# Altium footprint library connector.PcbLib: 63 footprints (part 1 of 4)
Each footprint in its own frame and in the unit in brackets; x right, y up, seen from the top. Pads: shape width x height; smd on the part's side, far side on the other; paste and mask are expansions set on the pad; w line width, h text height; cw(c..) or ccw(c..) is an arc to the next point about the centre after c.
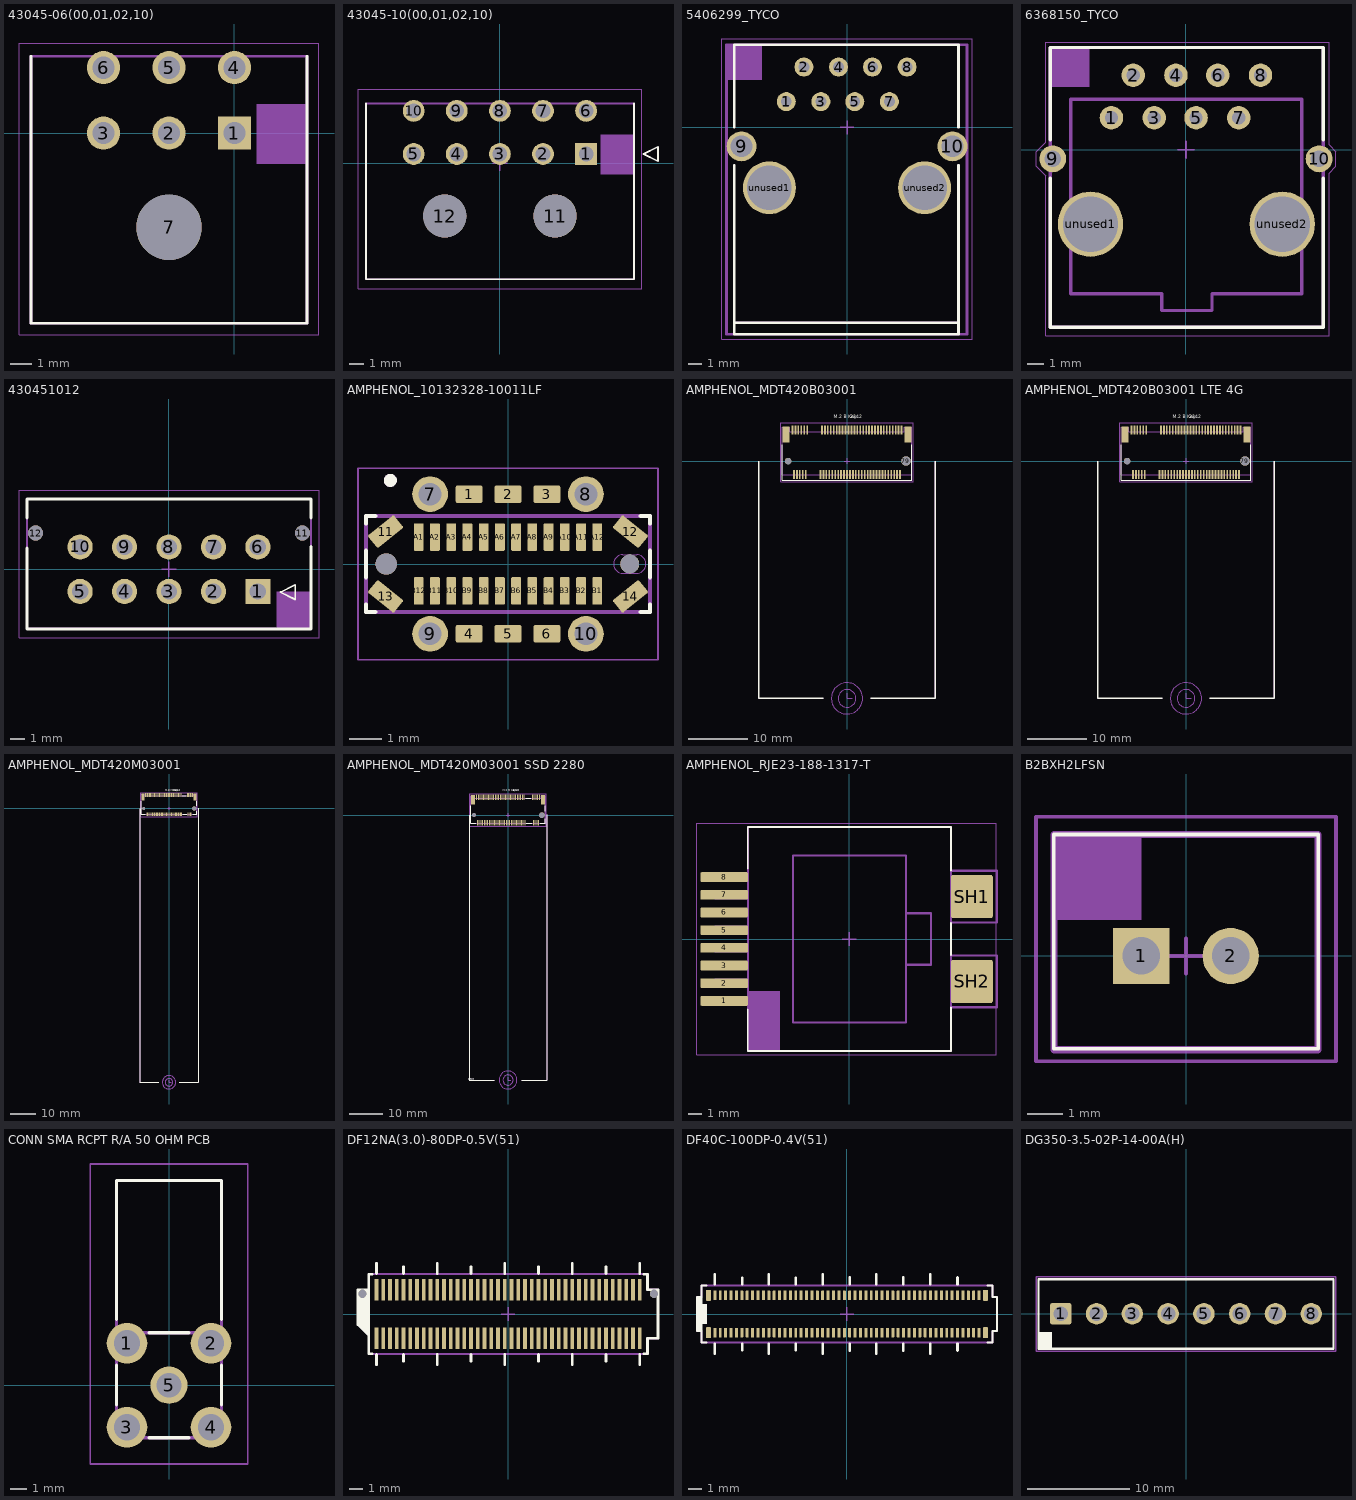
[diagram p0: the footprints below, top view; thin cyan lines are the x and y axes]

## 43045-06(00,01,02,10) [mm]
pads (7):
  rect 1.52x1.52 hole 1.02: 1(0,0)
  round 1.52 hole 1.02: 2(-3,0) 3(-6,0) 4(0,3) 5(-3,3) 6(-6,3)
  round 3 hole 3 unplated: 7(-3,-4.32)
Top Overlay:
  lines w0.127: -9.325,3.52 -9.325,-8.72 3.325,-8.72 3.325,3.52
Top Assembly:
  rectangle: 1,-1.423 3.321,1.34
  lines w0.127: -9.325,-8.72 3.325,-8.72 3.325,3.52 -9.325,3.52 -9.325,-8.72
Top Courtyard:
  lines w0.05: -9.875,-9.25 3.875,-9.25 3.875,4.125 -9.875,4.125 -9.875,-9.25
3D body "43045-0602.stp": height 8.69, standoff -3.26, extent -9.585,-8.905 3.565,3.335

## 43045-10(00,01,02,10) [mm]
pads (12):
  rect 1.52x1.52 hole 1.02: 1(6,0.66)
  round 1.52 hole 1.02: 2(3,0.66) 3(0,0.66) 4(-3,0.66) 5(-6,0.66) 6(6,3.66) 7(3,3.66) 8(0,3.66) 9(-3,3.66) 10(-6,3.66)
  round 3 hole 3 unplated: 11(3.84,-3.66) 12(-3.84,-3.66)
Top Overlay:
  lines w0.127: -9.325,4.18 -9.325,-8.06 9.325,-8.06 9.325,4.18 ; 10,0.66 11,0.16 11,1.16 10,0.66
Top Designator:
  text ".Designator" at -8.874,5.675 h0.6
Top Assembly:
  rectangle: 7,-0.763 9.321,2
  lines w0.127: -9.325,-8.06 9.325,-8.06 9.325,4.18 -9.325,4.18 -9.325,-8.06
Top Courtyard:
  lines w0.05: -9.875,-8.715 9.875,-8.715 9.875,5.16 -9.875,5.16 -9.875,-8.715
  lines w0.1: -0.5,0 0.5,0 ; 0,-0.5 0,0.5
3D body "43045-1000.stp": height 8.67, standoff -3.28, extent -9.6,-8.27 9.55,3.97

## 5406299_TYCO [mm]
pads (12):
  round 1.4 hole 0.8 paste-2539.97: 1(-4.475,1.9) 2(-3.175,4.45) 3(-1.925,1.9) 4(-0.625,4.45) 5(0.575,1.9) 6(1.875,4.45) 7(3.125,1.9) 8(4.425,4.45)
  round 2.2 hole 1.6 paste-2539.97: 9(-7.775,-1.4) 10(7.775,-1.4)
  round 3.9 hole 3.3 paste-2539.97: unused1(-5.725,-4.45) unused2(5.725,-4.45)
Top Overlay:
  lines w0.2: -8.31,-14.4 8.2,-14.4 ; -8.31,-2.8 -8.31,-15.25 8.225,-15.25 8.225,-2.8 ; -8.31,0 -8.31,6.1 8.225,6.1 8.225,0
Top Designator:
  text ".Designator" at -2.999,7.3 h0.6
Top Assembly:
  rectangle: -8.886,3.5 -6.25,6.1
  lines w0.2: -8.31,-14.4 8.225,-14.4 ; -8.886,-15.25 -8.886,6.1 8.847,6.1 8.847,-15.25 -8.886,-15.25
Top Courtyard:
  lines w0.05: -9.25,-2.115 -9.25,-1 -9.25,-0.675 -9.25,6.515 9.245,6.515 9.245,-0.687 9.245,-2.1 9.247,-2.102 9.247,-15.6 -9.246,-15.6 -9.246,-2.119 -9.25,-2.115
  lines w0.1: -0.5,0 0.5,0 ; 0,-0.5 0,0.5
3D body "1-5406299-1.stp": height 14.75, standoff -3.69, extent -8.917,-15.179 8.817,6.157

## 6368150_TYCO [mm]
pads (12):
  round 1.4 hole 0.8 paste-2539.97: 1(-4.45,1.9) 2(-3.15,4.45) 3(-1.9,1.9) 4(-0.6,4.45) 5(0.6,1.9) 6(1.9,4.45) 7(3.15,1.9) 8(4.45,4.45)
  round 1.6 hole 1 paste-2539.97: 9(-7.95,-0.55) 10(7.95,-0.55)
  round 3.9 hole 3.3 paste-2539.97: unused1(-5.7,-4.45) unused2(5.75,-4.45)
Top Overlay:
  lines w0.2: -8.1,-1.7 -8.1,-10.6 8.2,-10.6 8.2,-1.7 ; -8.1,0.6 -8.1,6.1 8.2,6.1 8.2,0.6
Top Designator:
  text ".Designator" at -2.999,7.05 h0.6
Top Assembly:
  rectangle: -8.1,3.75 -5.75,6.1
  lines w0.2: -8.1,-10.6 -8.1,6.1 8.2,6.1 8.2,-10.6 -8.1,-10.6 ; -6.888,-8.6 -3.45,-8.6 -1.45,-8.6 -1.45,-9.6 -0.95,-9.6 0.05,-9.6 1.05,-9.6 1.55,-9.6 1.55,-8.6 3.55,-8.6 6.904,-8.6 6.904,-0.446 6.904,3.018 -6.888,3.018 -6.888,-8.6
Top Courtyard:
  lines w0.05: -8.955,-0.991 -8.383,-1.563 -8.383,-11.1 8.55,-11.1 8.55,-1.407 8.958,-1 8.958,-0.118 8.55,0.29 8.55,6.402 -8.383,6.402 -8.383,0.449 -8.955,-0.124 -8.955,-0.991
  lines w0.1: -0.5,0 0.5,0 ; 0,-0.5 0,0.5
3D body "6368150-1.stp": height 17, standoff -3.74, extent -8.065,-10.809 8.055,5.821

## 430451012 [mm]
pads (12):
  rect 1.7x1.7 hole 1.1: 1(6,-1.5)
  round 1.7 hole 1.1: 2(3,-1.5) 3(0,-1.5) 4(-3,-1.5) 5(-6,-1.5) 6(6,1.5) 7(3,1.5) 8(0,1.5) 9(-3,1.5) 10(-6,1.5)
  round 1.02 hole 1.02: 11(9,2.44) 12(-9,2.44)
Top Overlay:
  lines w0.127: 7.525,-1.55 8.525,-2.05 8.525,-1.05 7.525,-1.55
  lines w0.2: -9.575,1.42 -9.575,-4.025 9.575,-4.025 9.575,1.525 ; -9.575,3.45 -9.575,4.725 9.575,4.725 9.575,3.45
Route Tool Path:
  text "%R" at 5.501,-1.872 h1.27
Top Designator:
  text ".Designator" at -2.974,5.2 h0.6
Top Assembly:
  rectangle: 7.25,-4 9.575,-1.5
  lines w0.127: -9.575,-4 -9.575,4.75 9.575,4.75 9.575,-4 -9.575,-4
Top Courtyard:
  lines w0.05: -10.125,-4.625 -10.125,5.325 10.125,5.325 10.125,-4.625 -10.125,-4.625
  lines w0.1: -0.5,0 0.5,0 ; 0,-0.5 0,0.5
3D body "43045-1012.stp": height 9.95, standoff -3.14, extent -9.575,-3.99 9.575,4.78

## AMPHENOL_10132328-10011LF [mm]
height 8.8
pads (40):
  rrect20% 0.82x0.55 smd: 1(-1.2,2.15) 2(0,2.15) 3(1.2,2.15) 4(-1.2,-2.15) 5(0,-2.15) 6(1.2,-2.15)
  round 1.1 hole 0.7: 7(-2.4,2.15) 8(2.4,2.15) 9(-2.4,-2.15) 10(2.4,-2.15)
  rrect20% 1.03x0.5 smd rot 39: 11(-3.77,1) 14(3.77,-1)
  rrect20% 1.03x0.5 smd rot 141: 12(3.77,1) 13(-3.77,-1)
  rrect20% 0.3x0.85 smd: A1(-2.75,0.83) A2(-2.25,0.83) A3(-1.75,0.83) A4(-1.25,0.83) A5(-0.75,0.83) A6(-0.25,0.83) A7(0.25,0.83) A8(0.75,0.83) A9(1.25,0.83) A10(1.75,0.83) A11(2.25,0.83) A12(2.75,0.83) B1(2.75,-0.83) B2(2.25,-0.83) B3(1.75,-0.83) B4(1.25,-0.83) B5(0.75,-0.83) B6(0.25,-0.83) B7(-0.25,-0.83) B8(-0.75,-0.83) B9(-1.25,-0.83) B10(-1.75,-0.83) B11(-2.25,-0.83) B12(-2.75,-0.83)
  round 0.66 hole 0.66 unplated: ""(-3.75,0)
  round 0.58 hole 0.58 unplated: ""(3.75,0)
Top Overlay:
  circle w0.2: c-3.625,2.575 r0.1
  lines w0.127: -4.37,-1.25 -4.37,-1.48 -4.09,-1.48 ; -4.37,-0.41 -4.37,0.41 ; -4.37,1.25 -4.37,1.48 -4.09,1.48 ; 4.09,-1.48 4.37,-1.48 4.37,-1.25 ; 4.09,1.48 4.37,1.48 4.37,1.25 ; 4.37,-0.41 4.37,0.41
Board:
  lines w0: 3.54,-0.29 cw(c3.54,0) 3.54,0.29 3.96,0.29 cw(c3.96,0) 3.96,-0.29 3.54,-0.29
Top Assembly:
  circle w0.2: c-3.625,2.575 r0.1
  lines w0.127: -4.37,-1.48 -4.37,1.48 4.37,1.48 4.37,-1.48 -4.37,-1.48
Top Courtyard:
  lines w0.05: -4.62,-2.95 -4.62,2.95 4.62,2.95 4.62,-2.95 -4.62,-2.95
3D body "step_temp.STEP": height 8.9, standoff -1.2, extent -4.37,-2.25 4.37,2.25

## AMPHENOL_MDT420B03001 [mm] "PCIe M.2 Connectors, Storage and Server Connector, P=0.5mm, H=4.2mm, Key B,Gold Plating"
height 4.2
pads (71):
  rrect20% 0.3x1.55 smd: 1(-9.25,5.275) 2(-9,-2.275) 3(-8.75,5.275) 4(-8.5,-2.275) 5(-8.25,5.275) 6(-8,-2.275) 7(-7.75,5.275) 8(-7.5,-2.275) 9(-7.25,5.275) 10(-7,-2.275) 11(-6.75,5.275) 20(-4.5,-2.275) 21(-4.25,5.275) 22(-4,-2.275) 23(-3.75,5.275) 24(-3.5,-2.275) 25(-3.25,5.275) 26(-3,-2.275) 27(-2.75,5.275) 28(-2.5,-2.275) 29(-2.25,5.275) 30(-2,-2.275) 31(-1.75,5.275) 32(-1.5,-2.275) 33(-1.25,5.275) 34(-1,-2.275) 35(-0.75,5.275) 36(-0.5,-2.275) 37(-0.25,5.275) 38(0,-2.275) 39(0.25,5.275) 40(0.5,-2.275) 41(0.75,5.275) 42(1,-2.275) 43(1.25,5.275) 44(1.5,-2.275) 45(1.75,5.275) 46(2,-2.275) 47(2.25,5.275) 48(2.5,-2.275) 49(2.75,5.275) 50(3,-2.275) 51(3.25,5.275) 52(3.5,-2.275) 53(3.75,5.275) 54(4,-2.275) 55(4.25,5.275) 56(4.5,-2.275) 57(4.75,5.275) 58(5,-2.275) 59(5.25,5.275) 60(5.5,-2.275) 61(5.75,5.275) 62(6,-2.275) 63(6.25,5.275) 64(6.5,-2.275) 65(6.75,5.275) 66(7,-2.275) 67(7.25,5.275) 68(7.5,-2.275) 69(7.75,5.275) 70(8,-2.275) 71(8.25,5.275) 72(8.5,-2.275) 73(8.75,5.275) 74(9,-2.275) 75(9.25,5.275)
  rrect20% 1.2x2.75 smd: 76(-10.35,4.5) 77(10.35,4.5)
  round 1.1 hole 1.1 unplated: 78(-10,0)
  round 1.6 hole 1.6 unplated: 79(10,0)
Top Overlay:
  lines w0.127: -11,2.8 -11,-3.3 11,-3.3 11,2.8
  lines w0.254: -15,0 -15,-40.25 -4,-40.25 ; 4,-40.25 15,-40.25 15,-0.075
  text "2242" at 0.575,6.975 h1
  text "M.2 B Key" at -2.25,6.968 h1
Top Designator:
  text ".Designator" at -10.274,6.975 h0.6
Top Assembly:
  circle w0.2: c0,-40.25 r1.5
  circle w0.2: c0,-40.25 r2.65
  lines w0.127: -11,-2.35 -11,5.7 -9.75,5.7 -9.75,4.95 9.75,4.95 9.75,5.7 11,5.7 11,-2.35 -11,-2.35
  lines w0.15: -15,0 -15,-40.25 -4,-40.25 ; 4,-40.25 15,-40.25 15,-0.075
  lines w0.2: -15,0 -15,-40.25 -4,-40.25 ; 0,-39.37 0,-40.25 0.88,-40.25 ; 4,-40.25 15,-40.25 15,-0.075
Top Courtyard:
  lines w0.05: -11.25,-3.5 -11.25,6.5 11.25,6.5 11.25,-3.5 -11.25,-3.5
  lines w0.1: -0.5,0 0.5,0 ; 0,-0.5 0,0.5
3D body "step_temp.STEP": height 4.2, standoff -0.6, extent -11,-2.949 11,5.601

## AMPHENOL_MDT420B03001 LTE 4G [mm] "PCIe M.2 Connectors, Storage and Server Connector, P=0.5mm, H=4.2mm, Key B,Gold Plating"
height 4.2
pads (71):
  rrect20% 0.3x1.55 smd: 1(-9.25,5.275) 2(-9,-2.275) 3(-8.75,5.275) 4(-8.5,-2.275) 5(-8.25,5.275) 6(-8,-2.275) 7(-7.75,5.275) 8(-7.5,-2.275) 9(-7.25,5.275) 10(-7,-2.275) 11(-6.75,5.275) 20(-4.5,-2.275) 21(-4.25,5.275) 22(-4,-2.275) 23(-3.75,5.275) 24(-3.5,-2.275) 25(-3.25,5.275) 26(-3,-2.275) 27(-2.75,5.275) 28(-2.5,-2.275) 29(-2.25,5.275) 30(-2,-2.275) 31(-1.75,5.275) 32(-1.5,-2.275) 33(-1.25,5.275) 34(-1,-2.275) 35(-0.75,5.275) 36(-0.5,-2.275) 37(-0.25,5.275) 38(0,-2.275) 39(0.25,5.275) 40(0.5,-2.275) 41(0.75,5.275) 42(1,-2.275) 43(1.25,5.275) 44(1.5,-2.275) 45(1.75,5.275) 46(2,-2.275) 47(2.25,5.275) 48(2.5,-2.275) 49(2.75,5.275) 50(3,-2.275) 51(3.25,5.275) 52(3.5,-2.275) 53(3.75,5.275) 54(4,-2.275) 55(4.25,5.275) 56(4.5,-2.275) 57(4.75,5.275) 58(5,-2.275) 59(5.25,5.275) 60(5.5,-2.275) 61(5.75,5.275) 62(6,-2.275) 63(6.25,5.275) 64(6.5,-2.275) 65(6.75,5.275) 66(7,-2.275) 67(7.25,5.275) 68(7.5,-2.275) 69(7.75,5.275) 70(8,-2.275) 71(8.25,5.275) 72(8.5,-2.275) 73(8.75,5.275) 74(9,-2.275) 75(9.25,5.275)
  rrect20% 1.2x2.75 smd: 76(-10.35,4.5) 77(10.35,4.5)
  round 1.1 hole 1.1 unplated: 78(-10,0)
  round 1.6 hole 1.6 unplated: 79(10,0)
Top Overlay:
  lines w0.127: -11,2.8 -11,-3.3 11,-3.3 11,2.8
  lines w0.254: -15,0 -15,-40.25 -4,-40.25 ; 4,-40.25 15,-40.25 15,-0.075
  text "2242" at 0.575,6.975 h1
  text "M.2 B Key" at -2.25,6.968 h1
Top Designator:
  text ".Designator" at -10.274,6.975 h0.6
Top Assembly:
  circle w0.2: c0,-40.25 r1.5
  circle w0.2: c0,-40.25 r2.65
  lines w0.127: -11,-2.35 11,-2.35 11,5.7 9.75,5.7 9.75,4.95 -9.75,4.95 -9.75,5.7 -11,5.7 -11,-2.35
  lines w0.15: -15,0 -15,-40.25 -4,-40.25 ; 4,-40.25 15,-40.25 15,-0.075
  lines w0.2: 0,-39.37 0,-40.25 0.88,-40.25
Top Courtyard:
  lines w0.05: -11.25,-3.5 -11.25,6.5 11.25,6.5 11.25,-3.5 -11.25,-3.5
  lines w0.1: -0.5,0 0.5,0 ; 0,-0.5 0,0.5
3D body "step_temp.STEP": height 4.2, standoff -0.6, extent -11,-2.999 11,5.551
3D body "User Library-M_2_3042_Key_B_card.STEP": height 4.9, standoff 2.6, extent -15.025,-40.25 14.975,1.75

## AMPHENOL_MDT420M03001 [mm] "PCIe M.2 Connectors, Storage and Server Connector, P=0.5mm, H=4.2mm, Key M,Gold Plating"
height 4.2
pads (71):
  rrect20% 0.3x1.55 smd: 1(-9.25,5.275) 2(-9,-2.275) 3(-8.75,5.275) 4(-8.5,-2.275) 5(-8.25,5.275) 6(-8,-2.275) 7(-7.75,5.275) 8(-7.5,-2.275) 9(-7.25,5.275) 10(-7,-2.275) 11(-6.75,5.275) 12(-6.5,-2.275) 13(-6.25,5.275) 14(-6,-2.275) 15(-5.75,5.275) 16(-5.5,-2.275) 17(-5.25,5.275) 18(-5,-2.275) 19(-4.75,5.275) 20(-4.5,-2.275) 21(-4.25,5.275) 22(-4,-2.275) 23(-3.75,5.275) 24(-3.5,-2.275) 25(-3.25,5.275) 26(-3,-2.275) 27(-2.75,5.275) 28(-2.5,-2.275) 29(-2.25,5.275) 30(-2,-2.275) 31(-1.75,5.275) 32(-1.5,-2.275) 33(-1.25,5.275) 34(-1,-2.275) 35(-0.75,5.275) 36(-0.5,-2.275) 37(-0.25,5.275) 38(0,-2.275) 39(0.25,5.275) 40(0.5,-2.275) 41(0.75,5.275) 42(1,-2.275) 43(1.25,5.275) 44(1.5,-2.275) 45(1.75,5.275) 46(2,-2.275) 47(2.25,5.275) 48(2.5,-2.275) 49(2.75,5.275) 50(3,-2.275) 51(3.25,5.275) 52(3.5,-2.275) 53(3.75,5.275) 54(4,-2.275) 55(4.25,5.275) 56(4.5,-2.275) 57(4.75,5.275) 58(5,-2.275) 67(7.25,5.275) 68(7.5,-2.275) 69(7.75,5.275) 70(8,-2.275) 71(8.25,5.275) 72(8.5,-2.275) 73(8.75,5.275) 74(9,-2.275) 75(9.25,5.275)
  rrect20% 1.2x2.75 smd: 76(-10.35,4.5) 77(10.35,4.5)
  round 1.15 hole 1.15 unplated: 78(-10,0)
  round 1.65 hole 1.65 unplated: 79(10,0)
Top Overlay:
  lines w0.127: -11,2.805 -11,-2.35 -9.47,-2.35 ; 5.213,4.95 6.776,4.95 ; 5.463,-2.35 7.027,-2.35 ; 9.47,-2.35 11,-2.35 11,-1.145 ; 11,1.145 11,2.805
  lines w0.254: -11.5,-0.025 -11.5,-108.25 -4,-108.25 ; 4,-108.25 11.5,-108.25 11.5,0.1
  text "M.2 M Key" at -1.575,6.7 h1
  text "22110" at 1.5,6.7 h1
Top Designator:
  text ".Designator" at -8.349,6.75 h0.6
Top Assembly:
  circle w0.2: c0,-108.25 r2.65
  circle w0.2: c0,-108.25 r1.5
  lines w0.127: -11,-2.35 -11,5.7 -9.75,5.7 -9.75,4.95 9.75,4.95 9.75,5.7 11,5.7 11,-2.35 -11,-2.35
  lines w0.2: -11.5,-0.025 -11.5,-108.25 -4,-108.25 ; 0,-107.37 0,-108.25 0.88,-108.25 ; 4,-108.25 11.5,-108.25 11.5,0.1
Top Courtyard:
  lines w0.05: -11.25,-3.3 11.25,-3.3 11.25,6.3 -11.25,6.3 -11.25,-3.3
  lines w0.1: -0.5,0 0.5,0 ; 0,-0.5 0,0.5
3D body "step_temp.STEP": height 4.2, standoff -0.6, extent -11,-2.85 11,5.7

## AMPHENOL_MDT420M03001 SSD 2280 [mm] "PCIe M.2 Connectors, Storage and Server Connector, P=0.5mm, H=4.2mm, Key M,Gold Plating"
height 4.2
pads (71):
  rrect20% 0.3x1.55 smd: 1(-9.25,5.275) 2(-9,-2.275) 3(-8.75,5.275) 4(-8.5,-2.275) 5(-8.25,5.275) 6(-8,-2.275) 7(-7.75,5.275) 8(-7.5,-2.275) 9(-7.25,5.275) 10(-7,-2.275) 11(-6.75,5.275) 12(-6.5,-2.275) 13(-6.25,5.275) 14(-6,-2.275) 15(-5.75,5.275) 16(-5.5,-2.275) 17(-5.25,5.275) 18(-5,-2.275) 19(-4.75,5.275) 20(-4.5,-2.275) 21(-4.25,5.275) 22(-4,-2.275) 23(-3.75,5.275) 24(-3.5,-2.275) 25(-3.25,5.275) 26(-3,-2.275) 27(-2.75,5.275) 28(-2.5,-2.275) 29(-2.25,5.275) 30(-2,-2.275) 31(-1.75,5.275) 32(-1.5,-2.275) 33(-1.25,5.275) 34(-1,-2.275) 35(-0.75,5.275) 36(-0.5,-2.275) 37(-0.25,5.275) 38(0,-2.275) 39(0.25,5.275) 40(0.5,-2.275) 41(0.75,5.275) 42(1,-2.275) 43(1.25,5.275) 44(1.5,-2.275) 45(1.75,5.275) 46(2,-2.275) 47(2.25,5.275) 48(2.5,-2.275) 49(2.75,5.275) 50(3,-2.275) 51(3.25,5.275) 52(3.5,-2.275) 53(3.75,5.275) 54(4,-2.275) 55(4.25,5.275) 56(4.5,-2.275) 57(4.75,5.275) 58(5,-2.275) 67(7.25,5.275) 68(7.5,-2.275) 69(7.75,5.275) 70(8,-2.275) 71(8.25,5.275) 72(8.5,-2.275) 73(8.75,5.275) 74(9,-2.275) 75(9.25,5.275)
  rrect20% 1.2x2.75 smd: 76(-10.35,4.5) 77(10.35,4.5)
  round 1.15 hole 1.15 unplated: 78(-10,0)
  round 1.65 hole 1.65 unplated: 79(10,0)
Top Overlay:
  lines w0.127: -11,2.805 -11,-2.35 -9.47,-2.35 ; 5.213,4.95 6.776,4.95 ; 5.463,-2.35 7.027,-2.35 ; 9.47,-2.35 11,-2.35 11,-1.145 ; 11,1.145 11,2.805
  lines w0.254: -11.5,-0.025 -11.5,-78.25 -4,-78.25 ; 4,-78.25 11.5,-78.25 11.5,0.1
  text "M.2 M Key" at -1.575,6.7 h1
  text "2280" at 1.5,6.7 h1
  text "2280" at -10,-77.465 h1
Top Designator:
  text ".Designator" at -8.349,6.75 h0.6
Top Assembly:
  circle w0.2: c0,-78.25 r2.65
  circle w0.2: c0,-78.25 r1.5
  lines w0.127: -11,-2.35 -11,5.7 -9.75,5.7 -9.75,4.95 9.75,4.95 9.75,5.7 11,5.7 11,-2.35 -11,-2.35
  lines w0.2: -11.5,-0.025 -11.5,-78.25 -4,-78.25 ; 0,-77.37 0,-78.25 0.88,-78.25 ; 4,-78.25 11.5,-78.25 11.5,0.1
Top Courtyard:
  lines w0.05: -11.25,-3.3 11.25,-3.3 11.25,6.3 -11.25,6.3 -11.25,-3.3
  lines w0.1: -0.5,0 0.5,0 ; 0,-0.5 0,0.5
3D body "step_temp.STEP": height 4.2, standoff -0.6, extent -11,-2.85 11,5.7
3D body "2280_B_M.step": height 4.65, standoff 1.15, extent -11,-78.25 11,1.75

## AMPHENOL_RJE23-188-1317-T [mm]
height 13.1
pads (10):
  rrect20% 3.4x0.7 smd: 1(-9,-4.445) 2(-9,-3.175) 3(-9,-1.905) 4(-9,-0.635) 5(-9,0.635) 6(-9,1.905) 7(-9,3.175) 8(-9,4.445)
  rrect10% 3x3.1 smd: SH1(8.8,3.05) SH2(8.8,-3.05)
Top Overlay:
  lines w0.127: -7.3,-5.065 -7.3,-8.05 7.3,-8.05 7.3,-4.92 ; -7.3,5.065 -7.3,8.05 7.3,8.05 7.3,4.92 ; 7.3,-1.15 7.3,1.15
Top Designator:
  text ".Designator" at -3.799,9 h0.6
Top Assembly:
  rectangle: -7.25,-8 -5,-3.75
  lines w0.15: -7.35,-4.7 -9.654,-4.7 -9.654,-4.19 -7.35,-4.19 ; -7.35,-3.43 -9.654,-3.43 -9.654,-2.92 -7.35,-2.92 ; -7.35,-2.16 -9.654,-2.16 -9.654,-1.65 -7.35,-1.65 ; -7.35,-0.89 -9.654,-0.89 -9.654,-0.38 -7.35,-0.38 ; -7.35,0.38 -9.654,0.38 -9.654,0.89 -7.35,0.89 ; -7.35,1.65 -9.654,1.65 -9.654,2.16 -7.35,2.16 ; -7.35,2.92 -9.654,2.92 -9.654,3.43 -7.35,3.43 ; -7.35,4.19 -9.654,4.19 -9.654,4.7 -7.35,4.7 ; -4.05,-6 -4.05,6 4.05,6 4.05,-6 -4,-6 ; 4.053,1.85 5.85,1.85 5.85,-1.85 4.062,-1.85 ; 7.3,-4.9 10.6,-4.9 10.6,-1.2 7.3,-1.2 ; 7.3,1.2 10.6,1.2 10.6,4.9 7.3,4.9 ; -7.3,-8.05 -7.3,8.05 7.3,8.05 7.3,-8.05 -7.3,-8.05
Top Courtyard:
  lines w0.05: -10.95,-8.3 10.55,-8.3 10.55,8.3 -10.95,8.3 -10.95,-8.3
  lines w0.1: -0.5,0 0.5,0 ; 0,-0.5 0,0.5
3D body "CRJ068-1-SMT--3DModel-STEP-1.STEP": height 12.89, standoff 0.09, extent -9.652,-8.05 9.823,8.05

## B2BXH2LFSN [mm]
pads (2):
  rect 1.575x1.575 hole 1.05: 1(-1.25,0)
  round 1.575 hole 1.05: 2(1.25,0)
Top Overlay:
  lines w0.1: -3.7,-2.6 3.7,-2.6 3.7,3.4 -3.7,3.4 -3.7,-2.6
Top Designator:
  text ".Designator" at -3.099,4.4 h0.6
Top Assembly:
  rectangle: -3.7,1 -1.25,3.4
  lines w0.2: -3.7,-2.625 3.7,-2.625 3.7,3.4 -3.7,3.4 -3.7,-2.625
Top Courtyard:
  lines w0.1: -0.5,0 0.5,0 ; 0,-0.5 0,0.5 ; -4.2,-2.95 4.2,-2.95 4.2,3.9 -4.2,3.9 -4.2,-2.95
3D body "JST - XH - Thru - 2Pin - 2.5mm (Genuine).stp": height 7.21, standoff -3, extent -3.612,-2.489 3.562,3.353

## CONN SMA RCPT R/A 50 OHM PCB [mm]
pads (5):
  round 2.45 hole 1.6: 1(-2.54,2.54) 2(2.54,2.54) 3(-2.54,-2.54) 4(2.54,-2.54)
  round 2.25 hole 1.5: 5(0,0)
Top Overlay:
  lines w0.2: -3.175,-1.202 -3.175,1.202 ; -3.175,3.975 -3.175,12.375 3.175,12.375 3.175,3.975 ; -1.202,-3.175 1.202,-3.175 ; -1.202,3.175 1.202,3.175 ; 3.175,-1.202 3.175,1.202
Top Designator:
  text ".Designator" at -2.699,-6 h0.6
Top Assembly:
  lines w0.2: -3.175,3.175 -3.175,12.375 3.175,12.375 3.175,3.175 ; -3.175,3.175 -3.175,-3.175 3.175,-3.175 3.175,3.175 ; -3.175,3.175 3.175,3.175
Top Courtyard:
  lines w0.1: -0.5,0 0.5,0 ; 0,-0.5 0,0.5 ; -4.765,-4.765 -4.765,13.375 4.765,13.375 4.765,-4.765 -4.765,-4.765
3D body "3-1478978-1.stp": height 10.14, standoff -3.36, extent -3.175,-3.11 3.175,12.44

## DF12NA(3.0)-80DP-0.5V(51) [mm] "DF12NA(3.0)-80DP-0.5V(51)"
pads (82):
  rrect20% 0.28x1.6 smd: 1(-9.75,-1.8) 2(-9.75,1.8) 3(-9.25,-1.8) 4(-9.25,1.8) 5(-8.75,-1.8) 6(-8.75,1.8) 7(-8.25,-1.8) 8(-8.25,1.8) 9(-7.75,-1.8) 10(-7.75,1.8) 11(-7.25,-1.8) 12(-7.25,1.8) 13(-6.75,-1.8) 14(-6.75,1.8) 15(-6.25,-1.8) 16(-6.25,1.8) 17(-5.75,-1.8) 18(-5.75,1.8) 19(-5.25,-1.8) 20(-5.25,1.8) 21(-4.75,-1.8) 22(-4.75,1.8) 23(-4.25,-1.8) 24(-4.25,1.8) 25(-3.75,-1.8) 26(-3.75,1.8) 27(-3.25,-1.8) 28(-3.25,1.8) 29(-2.75,-1.8) 30(-2.75,1.8) 31(-2.25,-1.8) 32(-2.25,1.8) 33(-1.75,-1.8) 34(-1.75,1.8) 35(-1.25,-1.8) 36(-1.25,1.8) 37(-0.75,-1.8) 38(-0.75,1.8) 39(-0.25,-1.8) 40(-0.25,1.8) 41(0.25,-1.8) 42(0.25,1.8) 43(0.75,-1.8) 44(0.75,1.8) 45(1.25,-1.8) 46(1.25,1.8) 47(1.75,-1.8) 48(1.75,1.8) 49(2.25,-1.8) 50(2.25,1.8) 51(2.75,-1.8) 52(2.75,1.8) 53(3.25,-1.8) 54(3.25,1.8) 55(3.75,-1.8) 56(3.75,1.8) 57(4.25,-1.8) 58(4.25,1.8) 59(4.75,-1.8) 60(4.75,1.8) 61(5.25,-1.8) 62(5.25,1.8) 63(5.75,-1.8) 64(5.75,1.8) 65(6.25,-1.8) 66(6.25,1.8) 67(6.75,-1.8) 68(6.75,1.8) 69(7.25,-1.8) 70(7.25,1.8) 71(7.75,-1.8) 72(7.75,1.8) 73(8.25,-1.8) 74(8.25,1.8) 75(8.75,-1.8) 76(8.75,1.8) 77(9.25,-1.8) 78(9.25,1.8) 79(9.75,-1.8) 80(9.75,1.8)
  round 0.6 hole 0.6 unplated: ""(-10.8,1.5) ""(10.8,1.5)
Top Overlay:
  rectangle: -11.125,-0.8 -10.225,1.8
  lines w0.2: -10.881,-0.98 -10.881,-0.203 ; -10.693,-1.062 -10.693,-0.285 ; -10.581,-1.168 -10.581,-0.391 ; -10.475,-1.35 -10.475,-0.573 ; -10.325,1.8 -11.125,1.8 -11.125,-0.787 -11.113,-0.787 -10.323,-1.577 ; -10.323,-0.8 -10.323,-1.577 ; -10.323,1.8 -10.323,2.952 -10.06,2.952 ; -10.06,-2.952 -10.323,-2.952 -10.323,-1.577 ; -9.75,-3.75 -9.75,-3 ; -9.75,3 -9.75,3.75 ; -7.75,-3.5 -7.75,-3 ; -7.75,3 -7.75,3.5 ; -5.25,-3.75 -5.25,-3 ; -5.25,3.5 -5.25,3 -5.25,3.75 ; -2.75,-3.5 -2.75,-3 ; -2.75,3 -2.75,3.5 ; -0.25,-3.75 -0.25,-3 ; -0.25,3 -0.25,3.75 ; 2.25,-3.5 2.25,-3 ; 2.25,3 2.25,3.5 ; 4.75,-3.75 4.75,-3 ; 4.75,3 4.75,3.75 ; 7.25,-3.5 7.25,-3 ; 7.25,3 7.25,3.5 ; 9.75,-3.75 9.75,-3 ; 9.75,3 9.75,3.75 ; 10.06,-2.952 10.323,-2.952 10.323,-1.8 11.1,-1.8 11.1,1.8 10.323,1.8 10.323,2.952 10.06,2.952
Top Designator:
  text ".Designator" at -3.288,3.485 h0.6
Top Assembly:
  lines w0.15: -10.323,-2.169 -10.323,-2.952 10.323,-2.952 10.323,-1.8 11.1,-1.8 11.1,1.8 10.323,1.8 10.323,2.955 -10.323,2.955 -10.323,2.169
Top Courtyard:
  lines w0.1: -0.5,0 0.5,0 ; 0,-0.5 0,0.5
3D body "DF12NB(3.0)-80DP-0.5V(51).STEP": height 2.35, standoff 0.05, extent -11.55,-2.3 11.55,2.3

## DF40C-100DP-0.4V(51) [mm] "DF40C-100DP-0.4V(51)"
pads (104):
  rrect20% 0.22x0.7 smd: 1(-9.8,-1.38) 2(-9.8,1.38) 3(-9.4,-1.38) 4(-9.4,1.38) 5(-9,-1.38) 6(-9,1.38) 7(-8.6,-1.38) 8(-8.6,1.38) 9(-8.2,-1.38) 10(-8.2,1.38) 11(-7.8,-1.38) 12(-7.8,1.38) 13(-7.4,-1.38) 14(-7.4,1.38) 15(-7,-1.38) 16(-7,1.38) 17(-6.6,-1.38) 18(-6.6,1.38) 19(-6.2,-1.38) 20(-6.2,1.38) 21(-5.8,-1.38) 22(-5.8,1.38) 23(-5.4,-1.38) 24(-5.4,1.38) 25(-5,-1.38) 26(-5,1.38) 27(-4.6,-1.38) 28(-4.6,1.38) 29(-4.2,-1.38) 30(-4.2,1.38) 31(-3.8,-1.38) 32(-3.8,1.38) 33(-3.4,-1.38) 34(-3.4,1.38) 35(-3,-1.38) 36(-3,1.38) 37(-2.6,-1.38) 38(-2.6,1.38) 39(-2.2,-1.38) 40(-2.2,1.38) 41(-1.8,-1.38) 42(-1.8,1.38) 43(-1.4,-1.38) 44(-1.4,1.38) 45(-1,-1.38) 46(-1,1.38) 47(-0.6,-1.38) 48(-0.6,1.38) 49(-0.2,-1.38) 50(-0.2,1.38) 51(0.2,-1.38) 52(0.2,1.38) 53(0.6,-1.38) 54(0.6,1.38) 55(1,-1.38) 56(1,1.38) 57(1.4,-1.38) 58(1.4,1.38) 59(1.8,-1.38) 60(1.8,1.38) 61(2.2,-1.38) 62(2.2,1.38) 63(2.6,-1.38) 64(2.6,1.38) 65(3,-1.38) 66(3,1.38) 67(3.4,-1.38) 68(3.4,1.38) 69(3.8,-1.38) 70(3.8,1.38) 71(4.2,-1.38) 72(4.2,1.38) 73(4.6,-1.38) 74(4.6,1.38) 75(5,-1.38) 76(5,1.38) 77(5.4,-1.38) 78(5.4,1.38) 79(5.8,-1.38) 80(5.8,1.38) 81(6.2,-1.38) 82(6.2,1.38) 83(6.6,-1.38) 84(6.6,1.38) 85(7,-1.38) 86(7,1.38) 87(7.4,-1.38) 88(7.4,1.38) 89(7.8,-1.38) 90(7.8,1.38) 91(8.2,-1.38) 92(8.2,1.38) 93(8.6,-1.38) 94(8.6,1.38) 95(9,-1.38) 96(9,1.38) 97(9.4,-1.38) 98(9.4,1.38) 99(9.8,-1.38) 100(9.8,1.38)
  rrect20% 0.35x0.8 smd: 101(-10.275,1.38) 102(-10.275,-1.38) 103(10.275,-1.38) 104(10.275,1.38)
Top Overlay:
  rectangle: -11.1,-0.75 -10.375,0.75
  rectangle: -11.125,-1.306 -10.728,1.25
  lines w0.15: -10.425,-2.125 -10.8,-2.125 -10.8,-1.25 -11.125,-1.25 -11.125,1.25 -10.8,1.25 -10.8,2.125 -10.425,2.125 ; 10.425,-2.125 10.8,-2.125 10.8,-1.25 11.125,-1.25 11.125,1.25 10.8,1.25 10.8,2.125 10.425,2.125
  lines w0.2: -9.8,-2.95 -9.8,-2.2 ; -9.8,2.2 -9.8,2.95 ; -7.775,-2.7 -7.775,-2.2 ; -7.775,2.2 -7.775,2.7 ; -5.8,-2.95 -5.8,-2.2 ; -5.8,2.2 -5.8,2.95 ; -3.8,-2.7 -3.8,-2.2 ; -3.8,2.2 -3.8,2.7 ; -1.8,-2.95 -1.8,-2.2 ; -1.8,2.2 -1.8,2.95 ; 0.2,-2.7 0.2,-2.2 ; 0.2,2.2 0.2,2.7 ; 2.175,-2.95 2.175,-2.2 ; 2.175,2.2 2.175,2.95 ; 4.175,-2.7 4.175,-2.2 ; 4.175,2.2 4.175,2.7 ; 6.175,-2.95 6.175,-2.2 ; 6.175,2.2 6.175,2.95 ; 8.203,-2.701 8.203,-2.2 ; 8.203,2.2 8.203,2.701
Top Designator:
  text ".Designator" at -3.099,2.575 h0.6
Top Assembly:
  lines w0.15: -11.123,-1.252 -11.123,1.248 -10.798,1.248 -10.798,2.123 10.802,2.123 10.802,1.248 11.127,1.248 11.127,-1.252 10.802,-1.252 10.802,-2.127 -10.798,-2.127 -10.798,-1.252 -11.123,-1.252
Top Courtyard:
  lines w0.05: -11.125,-1.25 -11.125,1.25 -10.8,1.25 -10.8,2.125 10.8,2.125 10.8,1.25 11.125,1.25 11.125,-1.25 10.8,-1.25 10.8,-2.125 -10.8,-2.125 -10.8,-1.25 -11.125,-1.25
  lines w0.1: -0.5,0 0.5,0 ; 0,-0.5 0,0.5
Bottom 3D Body:
  text "102" at -9.848,-1.38 h0.36
3D body "DF40C-100DP.stp": height 1.19, standoff 0.05, extent -10.763,-1.481 10.757,1.489

## DG350-3.5-02P-14-00A(H) [mm]
pads (8):
  rrect20% 2.1x2.1 hole 1.4: 1(-12.25,0)
  round 2.1 hole 1.4: 2(-8.75,0) 3(-5.25,0) 4(-1.75,0) 5(1.75,0) 6(5.25,0) 7(8.75,0) 8(12.25,0)
Top Overlay:
  rectangle: -14.45,-3.4 -13.093,-1.8
  lines w0.2: -14.45,-3.425 14.45,-3.425 14.45,3.375 -14.45,3.375 -14.45,-3.425
Top Courtyard:
  lines w0.127: -14.675,-3.65 -14.675,3.6 14.675,3.6 14.675,-3.65 -14.675,-3.65
3D body "DG350-3.5-08P-12-00AH.STEP": height 8.5, standoff -3.4, extent -14.5,-3.425 14.5,3.375